# Altium footprint library Library.PcbLib: 33 footprints (part 2 of 3)
Each footprint in its own frame and in the unit in brackets; x right, y up, seen from the top. Pads: shape width x height; smd on the part's side, far side on the other; paste and mask are expansions set on the pad; w line width, h text height; cw(c..) or ccw(c..) is an arc to the next point about the centre after c.
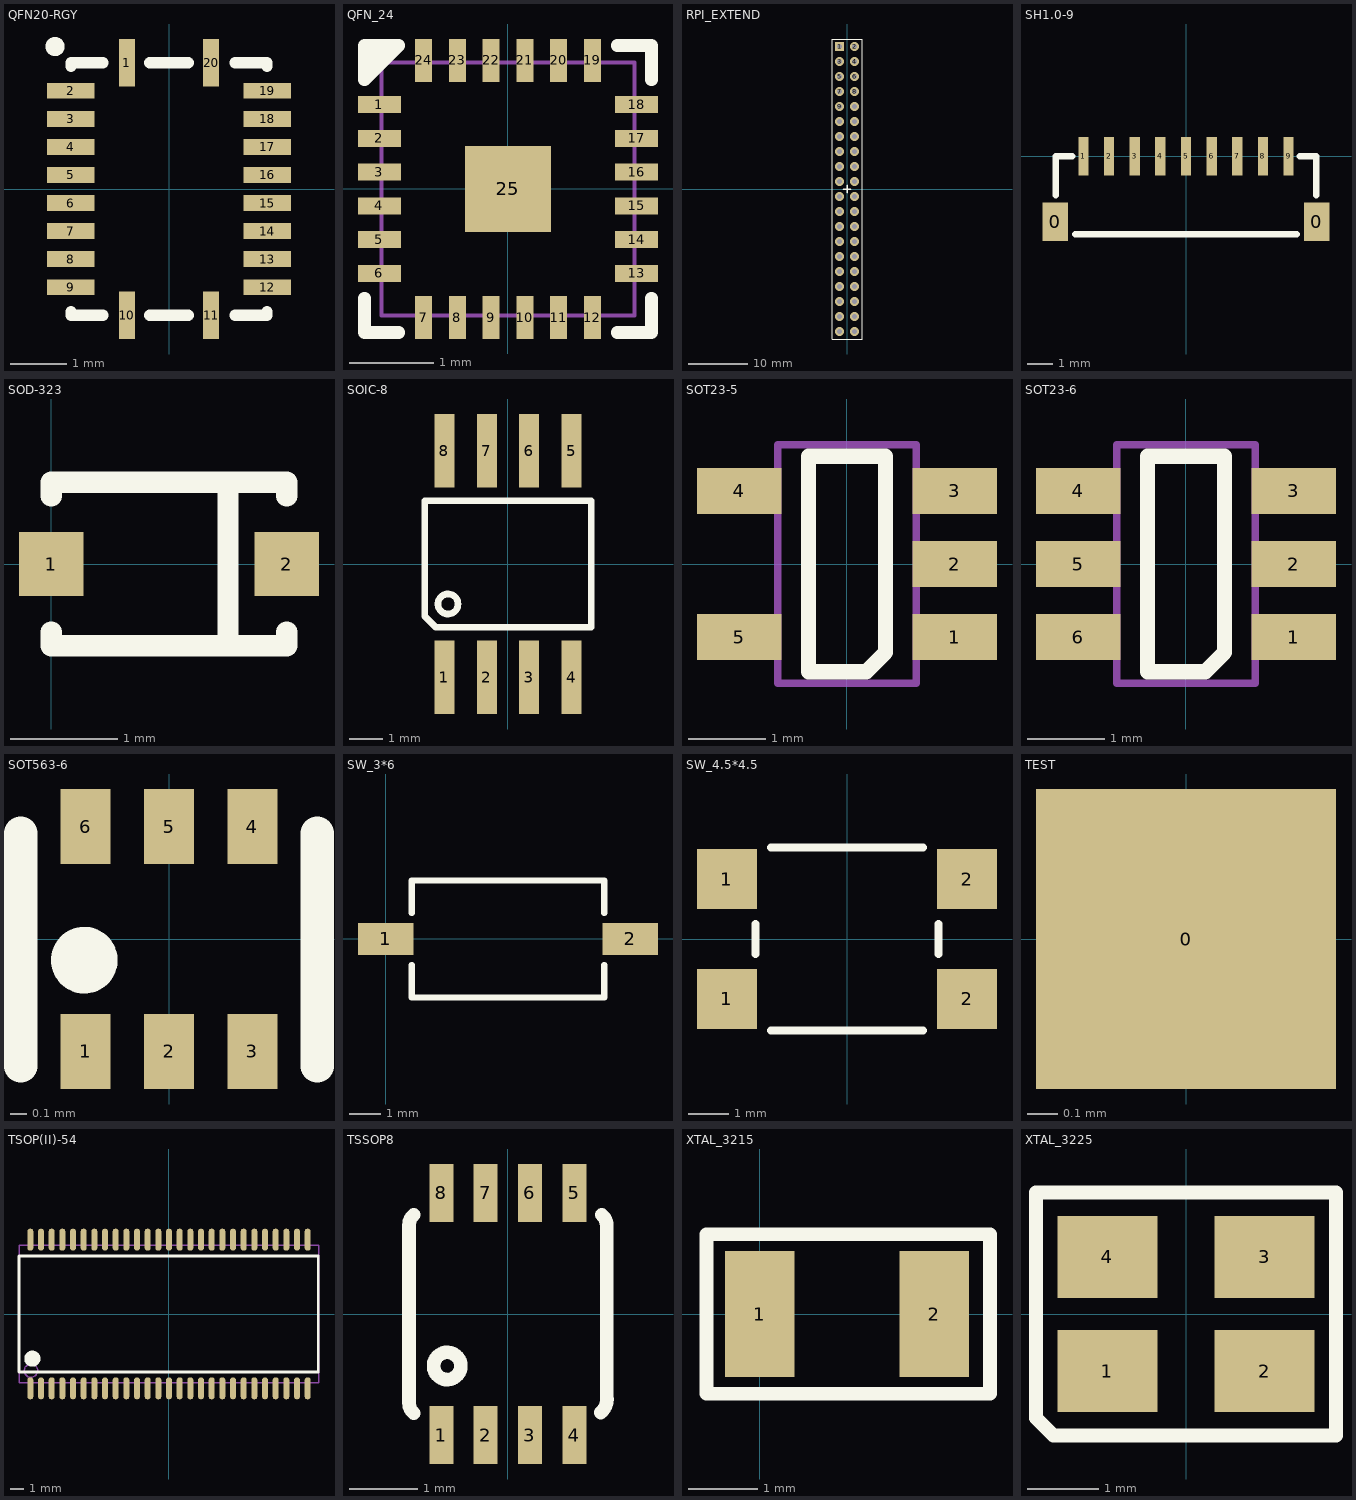
[diagram p1: the footprints below, top view; thin cyan lines are the x and y axes]

## QFN20-RGY [mm]
pads (20):
  rect 0.28x0.85 smd: 1(-0.75,2.25) 10(-0.75,-2.25) 11(0.75,-2.25) 20(0.75,2.25)
  rect 0.85x0.28 smd: 2(-1.75,1.75) 3(-1.75,1.25) 4(-1.75,0.75) 5(-1.75,0.25) 6(-1.75,-0.25) 7(-1.75,-0.75) 8(-1.75,-1.25) 9(-1.75,-1.75) 12(1.75,-1.75) 13(1.75,-1.25) 14(1.75,-0.75) 15(1.75,-0.25) 16(1.75,0.25) 17(1.75,0.75) 18(1.75,1.25) 19(1.75,1.75)
Top Overlay:
  circle w0.2: c-2.032,2.54 r0.071
  lines w0.2: -1.75,-2.187 -1.75,-2.25 -1.179,-2.25 ; -1.75,2.187 -1.75,2.25 -1.179,2.25 ; -0.345,-2.25 0.345,-2.25 ; -0.345,2.25 0.345,2.25 ; 1.179,-2.25 1.75,-2.25 1.75,-2.187 ; 1.179,2.25 1.75,2.25 1.75,2.187

## QFN_24 [mil] "QFN24"
pads (25):
  rect 20x8 smd: 1(-60,39.37) 2(-60,23.62) 3(-60,7.87) 4(-60,-7.87) 5(-60,-23.62) 6(-60,-39.37) 13(60,-39.37) 14(60,-23.62) 15(60,-7.87) 16(60,7.87) 17(60,23.62) 18(60,39.37)
  rect 8x20 smd: 7(-39.37,-60) 8(-23.62,-60) 9(-7.87,-60) 10(7.87,-60) 11(23.62,-60) 12(39.37,-60) 19(39.37,60) 20(23.62,60) 21(7.87,60) 22(-7.87,60) 23(-23.62,60) 24(-39.37,60)
  rect 40x40 smd: 25(0,0)
Top Overlay:
  region: -67,67 -51,67 -67,51
  lines w6: -67,-51 -67,-67 -51,-67 ; 51,-67 67,-67 67,-51 ; 51,67 67,67 67,51 ; -67,51 -51,67 -67,67 -67,51
Mechanical 13:
  lines w2: -59.05,-59.06 -59.05,59.06 59.06,59.06 59.06,-59.06 -59.05,-59.06
3D body "QFN40P300X300X100-24L.step": height 39.37, standoff 0, extent -59.84,-59.84 59.85,59.85

## RPI_EXTEND [mm]
pads (40):
  rect 1.5x1.5 hole 0.9: 1(-1.27,24.13)
  round 1.5 hole 0.9: 2(1.27,24.13) 3(-1.27,21.59) 4(1.27,21.59) 5(-1.27,19.05) 6(1.27,19.05) 7(-1.27,16.51) 8(1.27,16.51) 9(-1.27,13.97) 10(1.27,13.97) 11(-1.27,11.43) 12(1.27,11.43) 13(-1.27,8.89) 14(1.27,8.89) 15(-1.27,6.35) 16(1.27,6.35) 17(-1.27,3.81) 18(1.27,3.81) 19(-1.27,1.27) 20(1.27,1.27) 21(-1.27,-1.27) 22(1.27,-1.27) 23(-1.27,-3.81) 24(1.27,-3.81) 25(-1.27,-6.35) 26(1.27,-6.35) 27(-1.27,-8.89) 28(1.27,-8.89) 29(-1.27,-11.43) 30(1.27,-11.43) 31(-1.27,-13.97) 32(1.27,-13.97) 33(-1.27,-16.51) 34(1.27,-16.51) 35(-1.27,-19.05) 36(1.27,-19.05) 37(-1.27,-21.59) 38(1.27,-21.59) 39(-1.27,-24.13) 40(1.27,-24.13)
Top Overlay:
  lines w0.2: -2.54,-25.4 2.54,-25.4 2.54,25.4 -2.54,25.4 -2.54,-25.4
  lines w0.254: -0.635,0 0,0 ; 0,-0.635 0,0 ; 0,0.635 0,0 ; 0.635,0 0,0

## SH1.0-9 [mm] "连接器"
pads (11):
  rect 1x1.5 smd: 0(-5.1,-2.56) 0(5.1,-2.56)
  rect 0.4x1.5 smd: 1(-4,0) 2(-3,0) 3(-2,0) 4(-1,0) 5(0,0) 6(1,0) 7(2,0) 8(3,0) 9(4,0)
Top Overlay:
  lines w0.254: -5.08,-1.524 -5.08,0 -4.445,0 ; -4.318,-3.048 4.318,-3.048 ; 4.445,0 5.08,0 5.08,-1.524

## SOD-323 [mm]
pads (2):
  rect 0.6x0.6 smd: 1(0,0) 2(2.2,0)
Top Overlay:
  lines w0.2: 0,-0.635 0,-0.762 2.2,-0.762 2.2,-0.635 ; 0,0.635 0,0.762 2.2,0.762 2.2,0.635 ; 1.651,-0.762 1.651,0.762

## SOIC-8 [mm] "W25Q128"
pads (8):
  rect 0.6x2.2 smd: 1(-1.905,-3.4) 2(-0.635,-3.4) 3(0.635,-3.4) 4(1.905,-3.4) 5(1.905,3.4) 6(0.635,3.4) 7(-0.635,3.4) 8(-1.905,3.4)
Top Overlay:
  circle w0.2: c-1.8,-1.2 r0.3
  lines w0.2: -2.5,-1.564 -2.5,1.9 2.5,1.9 2.5,-1.9 -2.164,-1.9 -2.5,-1.564
3D body: height 1.8, standoff 0.02, extent -2.667,-2.667 2.667,2.667

## SOT23-5 [mm] "SOT23-5"
pads (5):
  rect 1.1x0.6 smd: 1(1.4,-0.95) 2(1.4,0) 3(1.4,0.95) 4(-1.4,0.95) 5(-1.4,-0.95)
Top Overlay:
  lines w0.2: -0.5,-1.4 -0.5,1.4 0.5,1.4 0.5,-1.151 0.251,-1.4 -0.5,-1.4
Mechanical 13:
  lines w0.1: -0.9,-1.55 -0.9,1.55 0.9,1.55 0.9,-1.55 -0.9,-1.55
3D body: height 1.8, standoff 0.02, extent -0.921,-1.556 0.921,1.556

## SOT23-6 [mm] "SOT23-6"
pads (6):
  rect 1.1x0.6 smd: 1(1.4,-0.95) 2(1.4,0) 3(1.4,0.95) 4(-1.4,0.95) 5(-1.4,0) 6(-1.4,-0.95)
Top Overlay:
  lines w0.2: -0.5,-1.4 -0.5,1.4 0.5,1.4 0.5,-1.151 0.251,-1.4 -0.5,-1.4
Mechanical 13:
  lines w0.1: -0.9,-1.55 -0.9,1.55 0.9,1.55 0.9,-1.55 -0.9,-1.55
3D body: height 1.8, standoff 0.02, extent -0.921,-1.556 0.921,1.556

## SOT563-6 [mm]
pads (6):
  rect 0.3x0.45 smd: 1(-0.5,-0.675) 2(0,-0.675) 3(0.5,-0.675) 4(0.5,0.675) 5(0,0.675) 6(-0.5,0.675)
Top Overlay:
  circle w0.2: c-0.508,-0.127 r0.1
  lines w0.2: -0.889,-0.762 -0.889,0.635 ; 0.889,-0.762 0.889,0.635

## SW_3*6 [mm] "按键"
pads (2):
  rect 1.75x1 smd: 1(0,0) 2(7.75,0)
Top Overlay:
  lines w0.2: 0.825,-0.825 0.825,-1.85 6.925,-1.85 6.925,-0.825 ; 0.825,0.825 0.825,1.85 6.925,1.85 6.925,0.825

## SW_4.5*4.5 [mm] "按键"
pads (4):
  rect 1.5x1.5 smd: 1(-3,-1.5) 1(-3,1.5) 2(3,-1.5) 2(3,1.5)
Top Overlay:
  lines w0.2: -2.286,-0.381 -2.286,0.381 ; -1.905,-2.286 1.905,-2.286 ; -1.905,2.286 1.905,2.286 ; 2.286,-0.381 2.286,0.381

## TEST [mm] "Test point"
pads (1):
  rect 1x1 smd: 0(0,0)

## TSOP(II)-54 [mm] "SDRAM"
pads (54):
  oval 0.45x1.65 smd: 1(-10.4,-5.575) 2(-9.6,-5.575) 3(-8.8,-5.575) 4(-8,-5.575) 5(-7.2,-5.575) 6(-6.4,-5.575) 7(-5.6,-5.575) 8(-4.8,-5.575) 9(-4,-5.575) 10(-3.2,-5.575) 11(-2.4,-5.575) 12(-1.6,-5.575) 13(-0.8,-5.575) 14(0,-5.575) 15(0.8,-5.575) 16(1.6,-5.575) 17(2.4,-5.575) 18(3.2,-5.575) 19(4,-5.575) 20(4.8,-5.575) 21(5.6,-5.575) 22(6.4,-5.575) 23(7.2,-5.575) 24(8,-5.575) 25(8.8,-5.575) 26(9.6,-5.575) 27(10.4,-5.575) 28(10.4,5.575) 29(9.6,5.575) 30(8.8,5.575) 31(8,5.575) 32(7.2,5.575) 33(6.4,5.575) 34(5.6,5.575) 35(4.8,5.575) 36(4,5.575) 37(3.2,5.575) 38(2.4,5.575) 39(1.6,5.575) 40(0.8,5.575) 41(0,5.575) 42(-0.8,5.575) 43(-1.6,5.575) 44(-2.4,5.575) 45(-3.2,5.575) 46(-4,5.575) 47(-4.8,5.575) 48(-5.6,5.575) 49(-6.4,5.575) 50(-7.2,5.575) 51(-8,5.575) 52(-8.8,5.575) 53(-9.6,5.575) 54(-10.4,5.575)
Top Overlay:
  circle w0.6: c-10.25,-3.35 r0.3
  lines w0.2: -11.25,-4.35 -11.25,4.35 11.2,4.35 11.2,-4.35 -11.25,-4.35
Mechanical 13:
  circle w0.1: c-10.35,-4.25 r0.5
  lines w0.1: -11.25,-5.15 -11.25,5.15 11.25,5.15 11.25,-5.15 -11.25,-5.15
3D body: height 1.8, standoff 0.02, extent -11.25,-5.08 11.2,5.08

## TSSOP8 [mm]
pads (8):
  rect 0.35x0.85 smd: 1(-0.975,-1.775) 2(-0.325,-1.775) 3(0.325,-1.775) 4(0.975,-1.775) 5(0.975,1.775) 6(0.325,1.775) 7(-0.325,1.775) 8(-0.975,1.775)
Top Overlay:
  circle w0.2: c-0.889,-0.762 r0.2
  lines w0.2: -1.379,-1.453 cw(c-1.25,-1.3) -1.45,-1.3 -1.45,1.3 cw(c-1.25,1.3) -1.379,1.453 ; 1.364,-1.445 ccw(c1.2,-1.25) 1.455,-1.25 ; 1.379,1.453 cw(c1.25,1.3) 1.45,1.3 1.45,-1.245

## XTAL_3215 [mm] "32.768KHz晶振-3215"
pads (2):
  rect 1x1.8 smd: 1(0,0) 2(2.5,0)
Top Overlay:
  lines w0.2: -0.762,-1.143 3.302,-1.143 3.302,1.143 -0.762,1.143 -0.762,-1.143
3D body: height 1, standoff 0, extent -0.254,-0.825 2.731,0.826

## XTAL_3225 [mm] "16MHz"
pads (4):
  rect 1.4x1.15 smd: 1(-1.1,-0.8) 2(1.1,-0.8) 3(1.1,0.8) 4(-1.1,0.8)
Top Overlay:
  lines w0.2: -2.1,-1.456 -1.856,-1.7 2.1,-1.7 2.1,1.7 -2.1,1.7 -2.1,-1.456
3D body "User Library-3225-1.STEP": height 0.61, standoff 0, extent -1.6,-1.25 1.6,1.25